# EAGLE library part PD69208M (library MicroSemi_PoE_PSE)
Microsemi 8 Port PSE PoE Manager
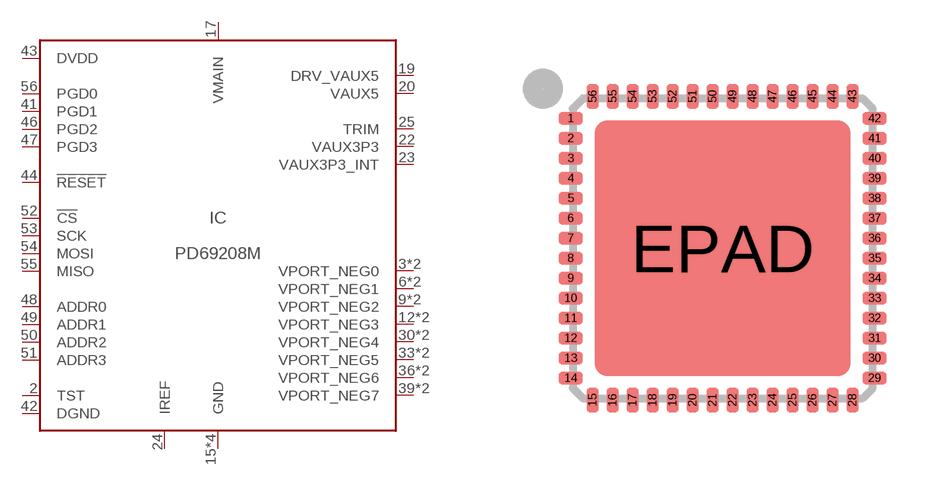
[diagram p1: symbol with the pads of QFN56; footprint QFN56]

Designator prefix IC

## PD69208M  [QFN56]
2  TST  in
3  VPORT_NEG0  out
4  VPORT_NEG0  out
6  VPORT_NEG1  out
7  VPORT_NEG1  out
9  VPORT_NEG2  out
10  VPORT_NEG2  out
12  VPORT_NEG3  out
13  VPORT_NEG3  out
15  GND  pwr
17  VMAIN  pwr
19  DRV_VAUX5  out
20  VAUX5  pwr
21  GND  pwr
22  VAUX3P3  pwr
23  VAUX3P3_INT  in
24  IREF
25  TRIM  in
28  GND  pwr
30  VPORT_NEG4  out
31  VPORT_NEG4  out
33  VPORT_NEG5  out
34  VPORT_NEG5  out
36  VPORT_NEG6  out
37  VPORT_NEG6  out
39  VPORT_NEG7  out
40  VPORT_NEG7  out
41  PGD1  in
42  DGND  pwr
43  DVDD  pwr
44  !RESET  in
46  PGD2  in
47  PGD3  in
48  ADDR0  in
49  ADDR1  in
50  ADDR2  in
51  ADDR3  in
52  !CS  in
53  SCK  in
54  MOSI  in
55  MISO  out
56  PGD0  in
EPAD  GND  pwr

## Footprint QFN56 (pad centres in mm)
56-Lead QFN 8 x 8 mm LF56A Source: Source: http://www.cypress.com .. cy7c68013a_5.pdf
smd 0.6 x 0.3: 1 -3.8,3.25; 2 -3.8,2.75; 3 -3.8,2.25; 4 -3.8,1.75; 5 -3.8,1.25; 6 -3.8,0.75; 7 -3.8,0.25; 8 -3.8,-0.25; 9 -3.8,-0.75; 10 -3.8,-1.25; 11 -3.8,-1.75; 12 -3.8,-2.25; 13 -3.8,-2.75; 14 -3.8,-3.25; 29 3.8,-3.25; 30 3.8,-2.75; 31 3.8,-2.25; 32 3.8,-1.75; 33 3.8,-1.25; 34 3.8,-0.75; 35 3.8,-0.25; 36 3.8,0.25; 37 3.8,0.75; 38 3.8,1.25; 39 3.8,1.75; 40 3.8,2.25; 41 3.8,2.75; 42 3.8,3.25
smd 0.3 x 0.6: 15 -3.25,-3.8; 16 -2.75,-3.8; 17 -2.25,-3.8; 18 -1.75,-3.8; 19 -1.25,-3.8; 20 -0.75,-3.8; 21 -0.25,-3.8; 22 0.25,-3.8; 23 0.75,-3.8; 24 1.25,-3.8; 25 1.75,-3.8; 26 2.25,-3.8; 27 2.75,-3.8; 28 3.25,-3.8; 43 3.25,3.8; 44 2.75,3.8; 45 2.25,3.8; 46 1.75,3.8; 47 1.25,3.8; 48 0.75,3.8; 49 0.25,3.8; 50 -0.25,3.8; 51 -0.75,3.8; 52 -1.25,3.8; 53 -1.75,3.8; 54 -2.25,3.8; 55 -2.75,3.8; 56 -3.25,3.8
smd 6.4 x 6.4: EPAD 0,0